# EAGLE library part WE-UNIT_NXP_750340505 (library WE-UNIT_NXP_750340505)
Off-Line Transformer WE-Unit NXP - Nominal input voltage: 85-265 VAC - Operating temperature: -40°C to +125 °C - Isolation voltage 4 kVAC -- Especially designed for several ICs from NXP SSL2101 -- Universal input -- Smart meters -- Dimmable 12 V LED driver -- Offline-switch mode power supplies
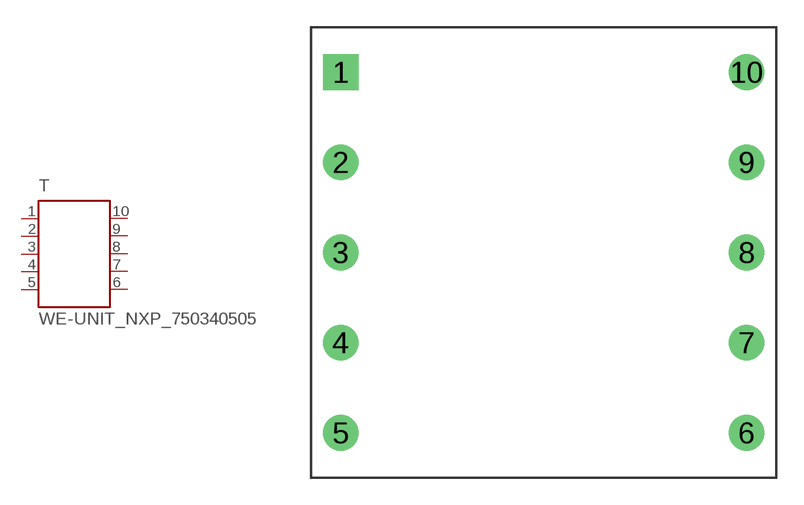
[diagram p0: symbol with the pads of WE_EFD25_THT_HORIZONTAL_10PIN; footprint WE_EFD25_THT_HORIZONTAL_10PIN]

Designator prefix T

## WE-UNIT_NXP_750340505 (MPN: 750340505; OC_FARNELL: 1849059; OC_NEWARK: 13T9834; PACKAGE: EFD25; SUPPLIER: Würth Elektronik eiSos GmbH)  [WE_EFD25_THT_HORIZONTAL_10PIN]
1  1  pas
2  2  pas
3  3  pas
4  4  pas
5  5  pas
6  6  pas
7  7  pas
8  8  pas
9  9  pas
10  10  pas

## Footprint WE_EFD25_THT_HORIZONTAL_10PIN (pad centres in mm)
Transformer, EFD25 THT Horizontal 10Pins
drill 1.32 square: 1 -11.25,10
drill 1.32: 2 -11.25,5; 3 -11.25,0; 4 -11.25,-5; 5 -11.25,-10; 6 11.25,-10; 7 11.25,-5; 8 11.25,0; 9 11.25,5; 10 11.25,10